# Altium footprint library ADS1115IDGST.PcbLib: 3 footprints
Each footprint in its own frame and in the unit in brackets; x right, y up, seen from the top. Pads: shape width x height; smd on the part's side, far side on the other; paste and mask are expansions set on the pad; w line width, h text height; cw(c..) or ccw(c..) is an arc to the next point about the centre after c.
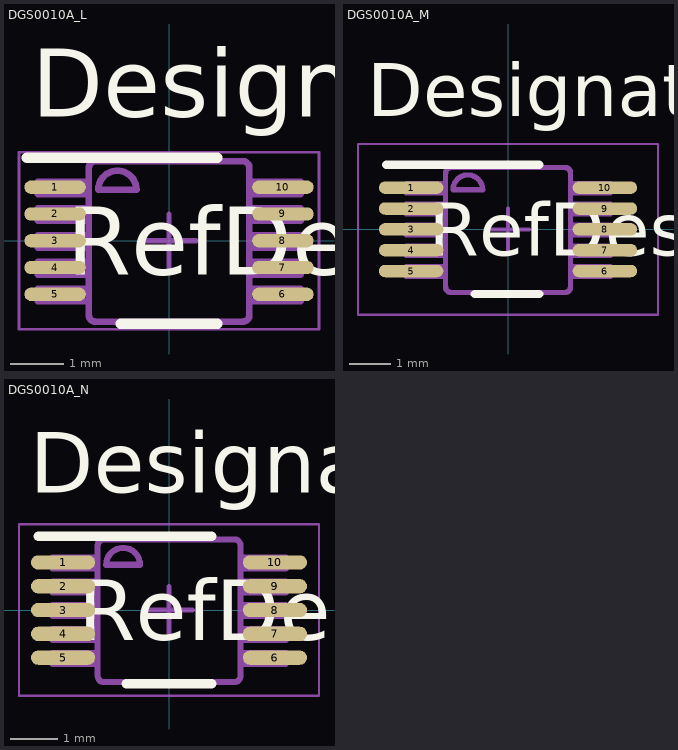
[diagram p0: the footprints below, top view; thin cyan lines are the x and y axes]

## DGS0010A_L [mm]
pads (10):
  oval 1.15x0.25 smd paste+0 mask+0.051: 1(-2.125,1) 2(-2.125,0.5) 3(-2.125,0) 4(-2.125,-0.5) 5(-2.125,-1) 6(2.125,-1) 7(2.125,-0.5) 8(2.125,0) 9(2.125,0.5) 10(2.125,1)
Top Overlay:
  lines w0.2: -2.65,1.55 0.9,1.55 ; -0.9,-1.55 0.9,-1.55
  text "Designator45" at -2.565,2.311 h1.27
  text "RefDes" at -1.905,-0.635 h1.27
Mechanical 13:
  lines w0.127: -2.45,-1.128 -2.21,-1.128 -2.09,-1.128 -2.087,-1.128 -1.784,-1.128 -1.498,-1.128 -1.498,-0.899 -1.784,-0.899 -2.087,-0.899 -2.09,-0.899 -2.21,-0.899 -2.45,-0.899 -2.45,-1.128 ; -2.45,-0.628 -2.21,-0.628 -2.09,-0.628 -2.087,-0.628 -1.784,-0.628 -1.498,-0.628 -1.498,-0.4 -1.784,-0.4 -2.087,-0.4 -2.09,-0.4 -2.21,-0.4 -2.45,-0.4 -2.45,-0.628 ; -2.45,-0.128 -2.21,-0.128 -2.09,-0.128 -2.087,-0.128 -1.784,-0.128 -1.498,-0.128 -1.498,0.1 -1.784,0.1 -2.087,0.1 -2.09,0.1 -2.21,0.1 -2.45,0.1 -2.45,-0.128 ; -2.45,0.372 -2.21,0.372 -2.09,0.372 -2.087,0.372 -1.784,0.372 -1.498,0.372 -1.498,0.6 -1.784,0.6 -2.087,0.6 -2.09,0.6 -2.21,0.6 -2.45,0.6 -2.45,0.372 ; -2.45,0.871 -2.21,0.871 -2.09,0.871 -2.087,0.871 -1.784,0.871 -1.498,0.871 -1.498,1.1 -1.784,1.1 -2.087,1.1 -2.09,1.1 -2.21,1.1 -2.45,1.1 -2.45,0.871 ; -1.497,-1.388 -1.498,-1.386 -1.498,1.358 -1.497,1.36 cw(c-1.37,1.358) -1.373,1.485 -1.371,1.485 1.373,1.485 1.375,1.485 cw(c1.373,1.358) 1.5,1.36 1.5,1.358 1.5,-1.386 1.5,-1.388 cw(c1.373,-1.386) 1.375,-1.513 1.373,-1.513 -1.371,-1.513 -1.373,-1.513 cw(c-1.37,-1.386) -1.497,-1.388 ; -1.32,0.951 -0.609,0.951 ccw(c-0.964,0.951) -1.32,0.951 ; 1.5,-1.128 1.786,-1.128 2.089,-1.128 2.093,-1.128 2.213,-1.128 2.452,-1.128 2.452,-0.899 2.213,-0.899 2.093,-0.899 2.089,-0.899 1.786,-0.899 1.5,-0.899 1.5,-1.128 ; 1.5,-0.628 1.786,-0.628 2.089,-0.628 2.093,-0.628 2.213,-0.628 2.452,-0.628 2.452,-0.4 2.213,-0.4 2.093,-0.4 2.089,-0.4 1.786,-0.4 1.5,-0.4 1.5,-0.628 ; 1.5,-0.128 1.786,-0.128 2.089,-0.128 2.093,-0.128 2.213,-0.128 2.452,-0.128 2.452,0.1 2.213,0.1 2.093,0.1 2.089,0.1 1.786,0.1 1.5,0.1 1.5,-0.128 ; 1.5,0.372 1.786,0.372 2.089,0.372 2.093,0.372 2.213,0.372 2.452,0.372 2.452,0.6 2.213,0.6 2.093,0.6 2.089,0.6 1.786,0.6 1.5,0.6 1.5,0.372 ; 1.5,0.871 1.786,0.871 2.089,0.871 2.093,0.871 2.213,0.871 2.452,0.871 2.452,1.1 2.213,1.1 2.093,1.1 2.089,1.1 1.786,1.1 1.5,1.1 1.5,0.871
Mechanical 15:
  lines w0.05: -2.8,-1.65 -2.8,1.65 2.8,1.65 2.8,-1.65 -2.8,-1.65
  lines w0.1: -0.5,0 0.5,0 ; 0,-0.5 0,0.5

## DGS0010A_M [mm]
pads (10):
  oval 1.55x0.3 smd paste+0 mask+0.051: 1(-2.325,1) 2(-2.325,0.5) 3(-2.325,0) 4(-2.325,-0.5) 5(-2.325,-1) 6(2.325,-1) 7(2.325,-0.5) 8(2.325,0) 9(2.325,0.5) 10(2.325,1)
Top Overlay:
  lines w0.2: -2.925,1.55 0.75,1.55 ; -0.8,-1.55 0.75,-1.55
  text "Designator44" at -3.378,2.718 h1.27
  text "RefDes" at -1.905,-0.635 h1.27
Mechanical 13:
  lines w0.127: -2.45,-1.128 -2.45,-0.899 -2.21,-0.899 -2.09,-0.899 -2.087,-0.899 -1.784,-0.899 -1.498,-0.899 -1.498,-1.128 -1.784,-1.128 -2.087,-1.128 -2.09,-1.128 -2.21,-1.128 -2.45,-1.128 ; -2.45,-0.628 -2.45,-0.4 -2.21,-0.4 -2.09,-0.4 -2.087,-0.4 -1.784,-0.4 -1.498,-0.4 -1.498,-0.628 -1.784,-0.628 -2.087,-0.628 -2.09,-0.628 -2.21,-0.628 -2.45,-0.628 ; -2.45,-0.128 -2.45,0.1 -2.21,0.1 -2.09,0.1 -2.087,0.1 -1.784,0.1 -1.498,0.1 -1.498,-0.128 -1.784,-0.128 -2.087,-0.128 -2.09,-0.128 -2.21,-0.128 -2.45,-0.128 ; -2.45,0.372 -2.45,0.6 -2.21,0.6 -2.09,0.6 -2.087,0.6 -1.784,0.6 -1.498,0.6 -1.498,0.372 -1.784,0.372 -2.087,0.372 -2.09,0.372 -2.21,0.372 -2.45,0.372 ; -2.45,0.871 -2.45,1.1 -2.21,1.1 -2.09,1.1 -2.087,1.1 -1.784,1.1 -1.498,1.1 -1.498,0.871 -1.784,0.871 -2.087,0.871 -2.09,0.871 -2.21,0.871 -2.45,0.871 ; -1.497,-1.388 -1.498,-1.386 -1.498,1.358 -1.497,1.36 cw(c-1.37,1.358) -1.373,1.485 -1.371,1.485 1.373,1.485 1.375,1.485 cw(c1.373,1.358) 1.5,1.36 1.5,1.358 1.5,-1.386 1.5,-1.388 cw(c1.373,-1.386) 1.375,-1.513 1.373,-1.513 -1.371,-1.513 -1.373,-1.513 cw(c-1.37,-1.386) -1.497,-1.388 ; -1.32,0.951 -0.609,0.951 ccw(c-0.964,0.951) -1.32,0.951 ; 1.5,-1.128 1.5,-0.899 1.786,-0.899 2.089,-0.899 2.093,-0.899 2.213,-0.899 2.452,-0.899 2.452,-1.128 2.213,-1.128 2.093,-1.128 2.089,-1.128 1.786,-1.128 1.5,-1.128 ; 1.5,-0.628 1.5,-0.4 1.786,-0.4 2.089,-0.4 2.093,-0.4 2.213,-0.4 2.452,-0.4 2.452,-0.628 2.213,-0.628 2.093,-0.628 2.089,-0.628 1.786,-0.628 1.5,-0.628 ; 1.5,-0.128 1.5,0.1 1.786,0.1 2.089,0.1 2.093,0.1 2.213,0.1 2.452,0.1 2.452,-0.128 2.213,-0.128 2.093,-0.128 2.089,-0.128 1.786,-0.128 1.5,-0.128 ; 1.5,0.372 1.5,0.6 1.786,0.6 2.089,0.6 2.093,0.6 2.213,0.6 2.452,0.6 2.452,0.372 2.213,0.372 2.093,0.372 2.089,0.372 1.786,0.372 1.5,0.372 ; 1.5,0.871 1.5,1.1 1.786,1.1 2.089,1.1 2.093,1.1 2.213,1.1 2.452,1.1 2.452,0.871 2.213,0.871 2.093,0.871 2.089,0.871 1.786,0.871 1.5,0.871
Mechanical 15:
  lines w0.05: -3.6,-2.05 -3.6,2.05 3.6,2.05 3.6,-2.05 -3.6,-2.05
  lines w0.1: -0.5,0 0.5,0 ; 0,-0.5 0,0.5

## DGS0010A_N [mm]
pads (10):
  oval 1.35x0.3 smd paste+0 mask+0.051: 1(-2.225,1) 2(-2.225,0.5) 3(-2.225,0) 4(-2.225,-0.5) 5(-2.225,-1) 6(2.225,-1) 7(2.225,-0.5) 8(2.225,0) 9(2.225,0.5) 10(2.225,1)
Top Overlay:
  lines w0.2: -2.75,1.55 0.9,1.55 ; -0.9,-1.55 0.9,-1.55
  text "Designator42" at -2.921,2.464 h1.27
  text "RefDes" at -1.905,-0.635 h1.27
Mechanical 13:
  lines w0.127: -2.45,-1.128 -2.45,-0.899 -2.21,-0.899 -2.09,-0.899 -2.087,-0.899 -1.784,-0.899 -1.498,-0.899 -1.498,-1.128 -1.784,-1.128 -2.087,-1.128 -2.09,-1.128 -2.21,-1.128 -2.45,-1.128 ; -2.45,-0.628 -2.45,-0.4 -2.21,-0.4 -2.09,-0.4 -2.087,-0.4 -1.784,-0.4 -1.498,-0.4 -1.498,-0.628 -1.784,-0.628 -2.087,-0.628 -2.09,-0.628 -2.21,-0.628 -2.45,-0.628 ; -2.45,-0.128 -2.45,0.1 -2.21,0.1 -2.09,0.1 -2.087,0.1 -1.784,0.1 -1.498,0.1 -1.498,-0.128 -1.784,-0.128 -2.087,-0.128 -2.09,-0.128 -2.21,-0.128 -2.45,-0.128 ; -2.45,0.372 -2.45,0.6 -2.21,0.6 -2.09,0.6 -2.087,0.6 -1.784,0.6 -1.498,0.6 -1.498,0.372 -1.784,0.372 -2.087,0.372 -2.09,0.372 -2.21,0.372 -2.45,0.372 ; -2.45,0.871 -2.45,1.1 -2.21,1.1 -2.09,1.1 -2.087,1.1 -1.784,1.1 -1.498,1.1 -1.498,0.871 -1.784,0.871 -2.087,0.871 -2.09,0.871 -2.21,0.871 -2.45,0.871 ; -1.497,-1.388 -1.498,-1.386 -1.498,1.358 -1.497,1.36 cw(c-1.37,1.358) -1.373,1.485 -1.371,1.485 1.373,1.485 1.375,1.485 cw(c1.373,1.358) 1.5,1.36 1.5,1.358 1.5,-1.386 1.5,-1.388 cw(c1.373,-1.386) 1.375,-1.513 1.373,-1.513 -1.371,-1.513 -1.373,-1.513 cw(c-1.37,-1.386) -1.497,-1.388 ; -1.32,0.951 -0.609,0.951 ccw(c-0.964,0.951) -1.32,0.951 ; 1.5,-1.128 1.5,-0.899 1.786,-0.899 2.089,-0.899 2.093,-0.899 2.213,-0.899 2.452,-0.899 2.452,-1.128 2.213,-1.128 2.093,-1.128 2.089,-1.128 1.786,-1.128 1.5,-1.128 ; 1.5,-0.628 1.5,-0.4 1.786,-0.4 2.089,-0.4 2.093,-0.4 2.213,-0.4 2.452,-0.4 2.452,-0.628 2.213,-0.628 2.093,-0.628 2.089,-0.628 1.786,-0.628 1.5,-0.628 ; 1.5,-0.128 1.5,0.1 1.786,0.1 2.089,0.1 2.093,0.1 2.213,0.1 2.452,0.1 2.452,-0.128 2.213,-0.128 2.093,-0.128 2.089,-0.128 1.786,-0.128 1.5,-0.128 ; 1.5,0.372 1.5,0.6 1.786,0.6 2.089,0.6 2.093,0.6 2.213,0.6 2.452,0.6 2.452,0.372 2.213,0.372 2.093,0.372 2.089,0.372 1.786,0.372 1.5,0.372 ; 1.5,0.871 1.5,1.1 1.786,1.1 2.089,1.1 2.093,1.1 2.213,1.1 2.452,1.1 2.452,0.871 2.213,0.871 2.093,0.871 2.089,0.871 1.786,0.871 1.5,0.871
Mechanical 15:
  lines w0.05: -3.15,-1.8 3.15,-1.8 3.15,1.8 -3.15,1.8 -3.15,-1.8
  lines w0.1: -0.5,0 0.5,0 ; 0,-0.5 0,0.5